# EAGLE library part XFMR_T63_RFC_FB (library NewSDR)
FT-63 Bifilar RFC Transformer with Feedback
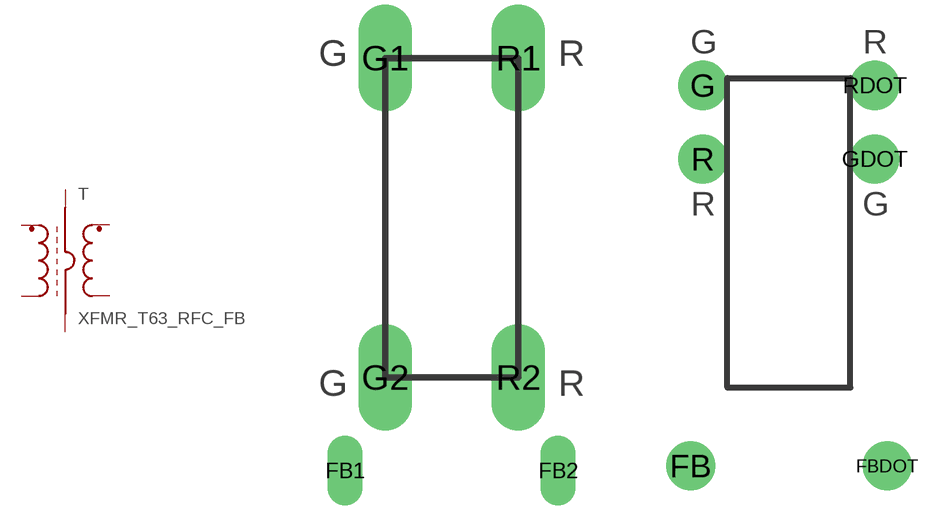
[diagram p84: symbol with the pads of FT63_CHOKE_FB; footprints FT63_CHOKE_FB, FT63_CHOKE_FB_90]

Designator prefix T

## XFMR_T63_RFC_FB  [FT63_CHOKE_FB]
FB1  FB  pas
FB2  FBDOT  pas
G1  PRIDOT  pas
G2  PRI  pas
R1  SECDOT  pas
R2  SEC  pas

## XFMR_T63_RFC_FB_90  [FT63_CHOKE_FB_90]
FB  FB  pas
FBDOT  FBDOT  pas
G  PRI  pas
GDOT  PRIDOT  pas
R  SEC  pas
RDOT  SECDOT  pas

## Footprint FT63_CHOKE_FB (pad centres in mm)
drill 0.813 pad 1.676 long: FB1 -5.08,-12.065; FB2 5.08,-12.065
drill 1.524 pad 2.54 long: G1 -3.175,7.62; G2 -3.175,-7.62; R1 3.175,7.62; R2 3.175,-7.62

## Footprint FT63_CHOKE_FB_90 (pad centres in mm)
DC Feed Choke on FT63-61 Core with Feedback
drill 1.524 pad 2.54: FB -5.08,-12.065; FBDOT 5.08,-12.065; G -4.445,7.62; GDOT 4.445,3.81; R -4.445,3.81; RDOT 4.445,7.62